# EAGLE library part ROTARYENC (library KillCordParts)
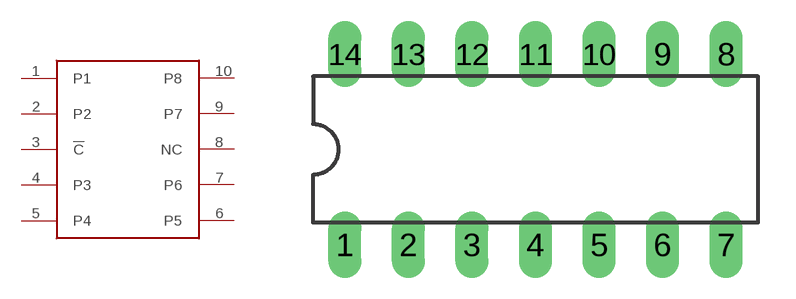
[diagram p0: symbol with the pads of DIL14; footprint DIL14]

Designator prefix -

## ROTARYENC  [DIL14]
1  P1
2  P2
3  !C!
4  P3
5  P4
6  P5
7  P6
8  NC
9  P7
10  P8

## Footprint DIL14 (pad centres in mm)
Dual In Line Package
drill 0.813 long: 1 -7.62,-3.81; 2 -5.08,-3.81; 3 -2.54,-3.81; 4 0,-3.81; 5 2.54,-3.81; 6 5.08,-3.81; 7 7.62,-3.81; 8 7.62,3.81; 9 5.08,3.81; 10 2.54,3.81; 11 0,3.81; 12 -2.54,3.81; 13 -5.08,3.81; 14 -7.62,3.81